# Altium schematic symbol library WE-PMCI.SchLib: 27 symbols
Pins are listed as number, name and electrical type; pins without a type are passive.

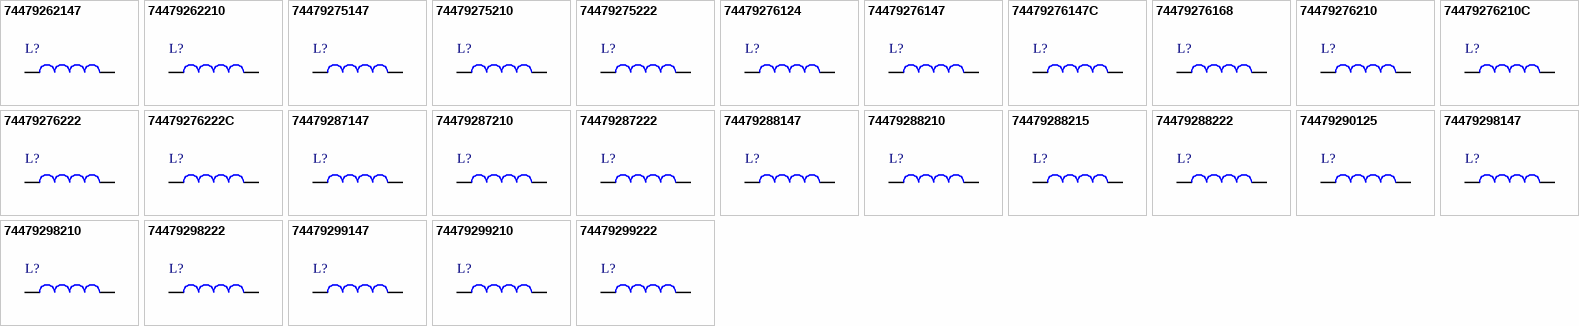
[diagram p0: symbols 74479262147 to 74479299222]

## 74479262147
designator L?, comment 0.47µH  (value not drawn)
WE-PMCI Power Molded Chip Inductor, size 160808, 0.47µH, 3.95A, 75mΩ; Manufacturer Part Number: 74479262147; Manufacturer: Wurth Elektronik; Case/Size Code: 160808; Saturation Current @ 10%: 1.5A; Saturation Current @ 30%: 3.35A; Self Resonant Frequency: 120MHz; Category: Power Inductors; Match Code: WE-PMCI; ComponentLink1Description: Website Link; ComponentLink1URL: https://www.we-online.com/redexpert/article/74479262147?ad; ComponentLink2Description: Datasheet Link; ComponentLink2URL: https://www.we-online.com/redexpert/spec/74479262147?ad; Mount: Surface Mount; Min Operating Temperature: -40°C; Max Operating Temperature: 125°C; Packaging: Tape and Reel; Length: 1.6mm; Width: 0.8mm; Height: 0.8mm; DC Resistance Max: 75mΩ; Inductance: 0.47µH; Performance Rated Current: 3.95A
footprint WE-PMCI_160808
simulation model 0603_74479262147_0.47u
pins: 1, 2

## 74479262210
designator L?, comment 1µH  (value not drawn)
WE-PMCI Power Molded Chip Inductor, size 160808, 1µH, 2.6A, 115mΩ; Manufacturer Part Number: 74479262210; Manufacturer: Wurth Elektronik; Case/Size Code: 160808; Saturation Current @ 10%: 1.2A; Self Resonant Frequency: 90MHz; Category: Power Inductors; Match Code: WE-PMCI; ComponentLink1Description: Website Link; ComponentLink1URL: https://www.we-online.com/redexpert/article/74479262210?ad; ComponentLink2Description: Datasheet Link; ComponentLink2URL: https://www.we-online.com/redexpert/spec/74479262210?ad; Mount: Surface Mount; Min Operating Temperature: -40°C; Max Operating Temperature: 125°C; Packaging: Tape and Reel; Length: 1.6mm; Width: 0.8mm; Height: 0.8mm; DC Resistance Max: 115mΩ; Inductance: 1µH; Performance Rated Current: 2.6A; Saturation Current @ 30%: 2.6A
footprint WE-PMCI_160808
simulation model 0603_74479262210_1u
pins: 1, 2

## 74479275147
designator L?, comment 0.47µH  (value not drawn)
WE-PMCI Power Molded Chip Inductor, size 201210, 0.47µH, 4.3A, 44mΩ; Manufacturer Part Number: 74479275147; Manufacturer: Wurth Elektronik; Case/Size Code: 201210; Saturation Current @ 10%: 2.55A; Saturation Current @ 30%: 5.15A; Self Resonant Frequency: 120MHz; Category: Power Inductors; Match Code: WE-PMCI; ComponentLink1Description: Website Link; ComponentLink1URL: https://www.we-online.com/redexpert/article/74479275147?ad; ComponentLink2Description: Datasheet Link; ComponentLink2URL: https://www.we-online.com/redexpert/spec/74479275147?ad; Mount: Surface Mount; Min Operating Temperature: -40°C; Max Operating Temperature: 125°C; Packaging: Tape and Reel; Length: 2mm; Width: 1.25mm; Height: 1mm; DC Resistance Max: 44mΩ; Inductance: 0.47µH; Performance Rated Current: 4.3A
footprint WE-PMCI_201210
simulation model 0805_74479275147_0.47u
pins: 1, 2

## 74479275210
designator L?, comment 1µH  (value not drawn)
WE-PMCI Power Molded Chip Inductor, size 201210, 1µH, 3.3A, 75mΩ; Manufacturer Part Number: 74479275210; Manufacturer: Wurth Elektronik; Case/Size Code: 201210; Saturation Current @ 10%: 1.55A; Saturation Current @ 30%: 3.45A; Self Resonant Frequency: 120MHz; Category: Power Inductors; Match Code: WE-PMCI; ComponentLink1Description: Website Link; ComponentLink1URL: https://www.we-online.com/redexpert/article/74479275210?ad; ComponentLink2Description: Datasheet Link; ComponentLink2URL: https://www.we-online.com/redexpert/spec/74479275210?ad; Mount: Surface Mount; Min Operating Temperature: -40°C; Max Operating Temperature: 125°C; Packaging: Tape and Reel; Length: 2mm; Width: 1.25mm; Height: 1mm; DC Resistance Max: 75mΩ; Inductance: 1µH; Performance Rated Current: 3.3A
footprint WE-PMCI_201210
simulation model 0805_74479275210_1u
pins: 1, 2

## 74479275222
designator L?, comment 2.2µH  (value not drawn)
WE-PMCI Power Molded Chip Inductor, size 201210, 2.2µH, 2A, 190mΩ; Manufacturer Part Number: 74479275222; Manufacturer: Wurth Elektronik; Case/Size Code: 201210; Saturation Current @ 10%: 1.2A; Saturation Current @ 30%: 2.4A; Self Resonant Frequency: 45MHz; Category: Power Inductors; Match Code: WE-PMCI; ComponentLink1Description: Website Link; ComponentLink1URL: https://www.we-online.com/redexpert/article/74479275222?ad; ComponentLink2Description: Datasheet Link; ComponentLink2URL: https://www.we-online.com/redexpert/spec/74479275222?ad; Mount: Surface Mount; Min Operating Temperature: -40°C; Max Operating Temperature: 125°C; Packaging: Tape and Reel; Length: 2mm; Width: 1.25mm; Height: 1mm; DC Resistance Max: 190mΩ; Inductance: 2.2µH; Performance Rated Current: 2A
footprint WE-PMCI_201210
simulation model 0805_74479275222_2.2u
pins: 1, 2

## 74479276124
designator L?, comment 0.24µH  (value not drawn)
WE-PMCI Power Molded Chip Inductor, size 201610, 0.24µH, 6.9A, 21mΩ; Manufacturer Part Number: 74479276124; Manufacturer: Wurth Elektronik; Case/Size Code: 201610; Saturation Current @ 10%: 2.8A; Saturation Current @ 30%: 6.7A; Self Resonant Frequency: 280MHz; Category: Power Inductors; Match Code: WE-PMCI; ComponentLink1Description: Website Link; ComponentLink1URL: https://www.we-online.com/redexpert/article/74479276124?ad; ComponentLink2Description: Datasheet Link; ComponentLink2URL: https://www.we-online.com/redexpert/spec/74479276124?ad; Mount: Surface Mount; Min Operating Temperature: -40°C; Max Operating Temperature: 125°C; Packaging: Tape and Reel; Length: 2mm; Width: 1.6mm; Height: 1mm; DC Resistance Max: 21mΩ; Inductance: 0.24µH; Performance Rated Current: 6.9A
footprint WE-PMCI_201610
simulation model 0806_74479276124_0.24u
pins: 1, 2

## 74479276147
designator L?, comment 0.47µH  (value not drawn)
WE-PMCI Power Molded Chip Inductor, size 201610, 0.47µH, 5.4A, 30mΩ; Manufacturer Part Number: 74479276147; Manufacturer: Wurth Elektronik; Case/Size Code: 201610; Saturation Current @ 10%: 2.95A; Saturation Current @ 30%: 6.3A; Self Resonant Frequency: 165MHz; Category: Power Inductors; Match Code: WE-PMCI; ComponentLink1Description: Website Link; ComponentLink1URL: https://www.we-online.com/redexpert/article/74479276147?ad; ComponentLink2Description: Datasheet Link; ComponentLink2URL: https://www.we-online.com/redexpert/spec/74479276147?ad; Mount: Surface Mount; Min Operating Temperature: -40°C; Max Operating Temperature: 125°C; Packaging: Tape and Reel; Length: 2mm; Width: 1.6mm; Height: 1mm; DC Resistance Max: 30mΩ; Inductance: 0.47µH; Performance Rated Current: 5.4A
footprint WE-PMCI_201610
simulation model 0806_74479276147_0.47u
pins: 1, 2

## 74479276147C
designator L?, comment 0.47µH  (value not drawn)
WE-PMCI Power Molded Chip Inductor, size 201610, 0.47µH, 5.4A, 30mΩ; Manufacturer Part Number: 74479276147C; Manufacturer: Wurth Elektronik; Case/Size Code: 201610; Saturation Current @ 10%: 2.95A; Saturation Current @ 30%: 6.3A; Self Resonant Frequency: 165MHz; Category: Power Inductors; Match Code: WE-PMCI; ComponentLink1Description: Website Link; ComponentLink1URL: https://www.we-online.com/redexpert/article/74479276147C?ad; ComponentLink2Description: Datasheet Link; ComponentLink2URL: https://www.we-online.com/redexpert/spec/74479276147C?ad; Mount: Surface Mount; Min Operating Temperature: -40°C; Max Operating Temperature: 125°C; Packaging: Tape and Reel; Length: 2mm; Width: 1.6mm; Height: 1mm; DC Resistance Max: 30mΩ; Inductance: 0.47µH; Performance Rated Current: 5.4A
footprint WE-PMCI_201610
simulation model 0806_74479276147C_0.47u
pins: 1, 2

## 74479276168
designator L?, comment 0.68µH  (value not drawn)
WE-PMCI Power Molded Chip Inductor, size 201610, 0.68µH, 3.8A, 49mΩ; Manufacturer Part Number: 74479276168; Manufacturer: Wurth Elektronik; Case/Size Code: 201610; Saturation Current @ 10%: 1.8A; Saturation Current @ 30%: 4A; Self Resonant Frequency: 130MHz; Category: Power Inductors; Match Code: WE-PMCI; ComponentLink1Description: Website Link; ComponentLink1URL: https://www.we-online.com/redexpert/article/74479276168?ad; ComponentLink2Description: Datasheet Link; ComponentLink2URL: https://www.we-online.com/redexpert/spec/74479276168?ad; Mount: Surface Mount; Min Operating Temperature: -40°C; Max Operating Temperature: 125°C; Packaging: Tape and Reel; Length: 2mm; Width: 1.6mm; Height: 1mm; DC Resistance Max: 49mΩ; Inductance: 0.68µH; Performance Rated Current: 3.8A
footprint WE-PMCI_201610
simulation model 0806_74479276168_0.68u
pins: 1, 2

## 74479276210
designator L?, comment 1µH  (value not drawn)
WE-PMCI Power Molded Chip Inductor, size 201610, 1µH, 3.15A, 60mΩ; Manufacturer Part Number: 74479276210; Manufacturer: Wurth Elektronik; Case/Size Code: 201610; Saturation Current @ 10%: 1.95A; Saturation Current @ 30%: 4.25A; Self Resonant Frequency: 95MHz; Category: Power Inductors; Match Code: WE-PMCI; ComponentLink1Description: Website Link; ComponentLink1URL: https://www.we-online.com/redexpert/article/74479276210?ad; ComponentLink2Description: Datasheet Link; ComponentLink2URL: https://www.we-online.com/redexpert/spec/74479276210?ad; Mount: Surface Mount; Min Operating Temperature: -40°C; Max Operating Temperature: 125°C; Packaging: Tape and Reel; Length: 2mm; Width: 1.6mm; Height: 1mm; DC Resistance Max: 60mΩ; Inductance: 1µH; Performance Rated Current: 3.15A
footprint WE-PMCI_201610
simulation model 0806_74479276210_1u
pins: 1, 2

## 74479276210C
designator L?, comment 1µH  (value not drawn)
WE-PMCI Power Molded Chip Inductor, size 201610, 1µH, 3.15A, 60mΩ; Manufacturer Part Number: 74479276210C; Manufacturer: Wurth Elektronik; Case/Size Code: 201610; Saturation Current @ 10%: 1.95A; Saturation Current @ 30%: 4.25A; Self Resonant Frequency: 95MHz; Category: Power Inductors; Match Code: WE-PMCI; ComponentLink1Description: Website Link; ComponentLink1URL: https://www.we-online.com/redexpert/article/74479276210C?ad; ComponentLink2Description: Datasheet Link; ComponentLink2URL: https://www.we-online.com/redexpert/spec/74479276210C?ad; Mount: Surface Mount; Min Operating Temperature: -40°C; Max Operating Temperature: 125°C; Packaging: Tape and Reel; Length: 2mm; Width: 1.6mm; Height: 1mm; DC Resistance Max: 60mΩ; Inductance: 1µH; Performance Rated Current: 3.15A
footprint WE-PMCI_201610
simulation model 0806_74479276210C_1u
pins: 1, 2

## 74479276222
designator L?, comment 2.2µH  (value not drawn)
WE-PMCI Power Molded Chip Inductor, size 201610, 2.2µH, 2.1A, 140mΩ; Manufacturer Part Number: 74479276222; Manufacturer: Wurth Elektronik; Case/Size Code: 201610; Saturation Current @ 10%: 1.25A; Saturation Current @ 30%: 2.8A; Self Resonant Frequency: 60MHz; Category: Power Inductors; Match Code: WE-PMCI; ComponentLink1Description: Website Link; ComponentLink1URL: https://www.we-online.com/redexpert/article/74479276222?ad; ComponentLink2Description: Datasheet Link; ComponentLink2URL: https://www.we-online.com/redexpert/spec/74479276222?ad; Mount: Surface Mount; Min Operating Temperature: -40°C; Max Operating Temperature: 125°C; Packaging: Tape and Reel; Length: 2mm; Width: 1.6mm; Height: 1mm; DC Resistance Max: 140mΩ; Inductance: 2.2µH; Performance Rated Current: 2.1A
footprint WE-PMCI_201610
simulation model 0806_74479276222_2.2u
pins: 1, 2

## 74479276222C
designator L?, comment 2.2µH  (value not drawn)
WE-PMCI Power Molded Chip Inductor, size 201610, 2.2µH, 2.1A, 140mΩ; Manufacturer Part Number: 74479276222C; Manufacturer: Wurth Elektronik; Case/Size Code: 201610; Saturation Current @ 10%: 1.25A; Saturation Current @ 30%: 2.8A; Self Resonant Frequency: 60MHz; Category: Power Inductors; Match Code: WE-PMCI; ComponentLink1Description: Website Link; ComponentLink1URL: https://www.we-online.com/redexpert/article/74479276222C?ad; ComponentLink2Description: Datasheet Link; ComponentLink2URL: https://www.we-online.com/redexpert/spec/74479276222C?ad; Mount: Surface Mount; Min Operating Temperature: -40°C; Max Operating Temperature: 125°C; Packaging: Tape and Reel; Length: 2mm; Width: 1.6mm; Height: 1mm; DC Resistance Max: 140mΩ; Inductance: 2.2µH; Performance Rated Current: 2.1A
footprint WE-PMCI_201610
simulation model 0806_74479276222C_2.2u
pins: 1, 2

## 74479287147
designator L?, comment 0.47µH  (value not drawn)
WE-PMCI Power Molded Chip Inductor, size 252010, 0.47µH, 7.35A, 29mΩ; Manufacturer Part Number: 74479287147; Manufacturer: Wurth Elektronik; Case/Size Code: 252010; Saturation Current @ 10%: 3.6A; Saturation Current @ 30%: 7.4A; Self Resonant Frequency: 150MHz; Category: Power Inductors; Match Code: WE-PMCI; ComponentLink1Description: Website Link; ComponentLink1URL: https://www.we-online.com/redexpert/article/74479287147?ad; ComponentLink2Description: Datasheet Link; ComponentLink2URL: https://www.we-online.com/redexpert/spec/74479287147?ad; Mount: Surface Mount; Min Operating Temperature: -40°C; Max Operating Temperature: 125°C; Packaging: Tape and Reel; Length: 2.5mm; Width: 2mm; Height: 1mm; DC Resistance Max: 29mΩ; Inductance: 0.47µH; Performance Rated Current: 7.35A
footprint WE-PMCI_252010
simulation model 1008_74479287147_0.47u
pins: 1, 2

## 74479287210
designator L?, comment 1µH  (value not drawn)
WE-PMCI Power Molded Chip Inductor, size 252010, 1µH, 4.9A, 52mΩ; Manufacturer Part Number: 74479287210; Manufacturer: Wurth Elektronik; Case/Size Code: 252010; Saturation Current @ 10%: 2.4A; Saturation Current @ 30%: 5.1A; Self Resonant Frequency: 85MHz; Category: Power Inductors; Match Code: WE-PMCI; ComponentLink1Description: Website Link; ComponentLink1URL: https://www.we-online.com/redexpert/article/74479287210?ad; ComponentLink2Description: Datasheet Link; ComponentLink2URL: https://www.we-online.com/redexpert/spec/74479287210?ad; Mount: Surface Mount; Min Operating Temperature: -40°C; Max Operating Temperature: 125°C; Packaging: Tape and Reel; Length: 2.5mm; Width: 2mm; Height: 1mm; DC Resistance Max: 52mΩ; Inductance: 1µH; Performance Rated Current: 4.9A
footprint WE-PMCI_252010
simulation model 1008_74479287210_1u
pins: 1, 2

## 74479287222
designator L?, comment 2.2µH  (value not drawn)
WE-PMCI Power Molded Chip Inductor, size 252010, 2.2µH, 3.15A, 110mΩ; Manufacturer Part Number: 74479287222; Manufacturer: Wurth Elektronik; Case/Size Code: 252010; Saturation Current @ 10%: 1.5A; Saturation Current @ 30%: 3.1A; Self Resonant Frequency: 40MHz; Category: Power Inductors; Match Code: WE-PMCI; ComponentLink1Description: Website Link; ComponentLink1URL: https://www.we-online.com/redexpert/article/74479287222?ad; ComponentLink2Description: Datasheet Link; ComponentLink2URL: https://www.we-online.com/redexpert/spec/74479287222?ad; Mount: Surface Mount; Min Operating Temperature: -40°C; Max Operating Temperature: 125°C; Packaging: Tape and Reel; Length: 2.5mm; Width: 2mm; Height: 1mm; DC Resistance Max: 110mΩ; Inductance: 2.2µH; Performance Rated Current: 3.15A
footprint WE-PMCI_252010
simulation model 1008_74479287222_2.2u
pins: 1, 2

## 74479288147
designator L?, comment 0.47µH  (value not drawn)
WE-PMCI Power Molded Chip Inductor, size 252012, 0.47µH, 6.8A, 22mΩ; Manufacturer Part Number: 74479288147; Manufacturer: Wurth Elektronik; Case/Size Code: 252012; Saturation Current @ 10%: 3.75A; Saturation Current @ 30%: 7.9A; Self Resonant Frequency: 140MHz; Category: Power Inductors; Match Code: WE-PMCI; ComponentLink1Description: Website Link; ComponentLink1URL: https://www.we-online.com/redexpert/article/74479288147?ad; ComponentLink2Description: Datasheet Link; ComponentLink2URL: https://www.we-online.com/redexpert/spec/74479288147?ad; Mount: Surface Mount; Min Operating Temperature: -40°C; Max Operating Temperature: 125°C; Packaging: Tape and Reel; Length: 2.5mm; Width: 2mm; Height: 1.2mm; DC Resistance Max: 22mΩ; Inductance: 0.47µH; Performance Rated Current: 6.8A
footprint WE-PMCI_252012
simulation model 1008_74479288147_0.47u
pins: 1, 2

## 74479288210
designator L?, comment 1µH  (value not drawn)
WE-PMCI Power Molded Chip Inductor, size 252012, 1µH, 4.6A, 44mΩ; Manufacturer Part Number: 74479288210; Manufacturer: Wurth Elektronik; Case/Size Code: 252012; Saturation Current @ 10%: 1.75A; Saturation Current @ 30%: 4.1A; Self Resonant Frequency: 80MHz; Category: Power Inductors; Match Code: WE-PMCI; ComponentLink1Description: Website Link; ComponentLink1URL: https://www.we-online.com/redexpert/article/74479288210?ad; ComponentLink2Description: Datasheet Link; ComponentLink2URL: https://www.we-online.com/redexpert/spec/74479288210?ad; Mount: Surface Mount; Min Operating Temperature: -40°C; Max Operating Temperature: 125°C; Packaging: Tape and Reel; Length: 2.5mm; Width: 2mm; Height: 1.2mm; DC Resistance Max: 44mΩ; Inductance: 1µH; Performance Rated Current: 4.6A
footprint WE-PMCI_252012
simulation model 1008_74479288210_1u
pins: 1, 2

## 74479288215
designator L?, comment 1.5µH  (value not drawn)
WE-PMCI Power Molded Chip Inductor, size 252012, 1.5µH, 3.2A, 77mΩ; Manufacturer Part Number: 74479288215; Manufacturer: Wurth Elektronik; Case/Size Code: 252012; Saturation Current @ 10%: 1.35A; Saturation Current @ 30%: 3.05A; Self Resonant Frequency: 70MHz; Category: Power Inductors; Match Code: WE-PMCI; ComponentLink1Description: Website Link; ComponentLink1URL: https://www.we-online.com/redexpert/article/74479288215?ad; ComponentLink2Description: Datasheet Link; ComponentLink2URL: https://www.we-online.com/redexpert/spec/74479288215?ad; Mount: Surface Mount; Min Operating Temperature: -40°C; Max Operating Temperature: 125°C; Packaging: Tape and Reel; Length: 2.5mm; Width: 2mm; Height: 1.2mm; DC Resistance Max: 77mΩ; Inductance: 1.5µH; Performance Rated Current: 3.2A
footprint WE-PMCI_252012
simulation model 1008_74479288215_1.5u
pins: 1, 2

## 74479288222
designator L?, comment 2.2µH  (value not drawn)
WE-PMCI Power Molded Chip Inductor, size 252012, 2.2µH, 3A, 89mΩ; Manufacturer Part Number: 74479288222; Manufacturer: Wurth Elektronik; Case/Size Code: 252012; Saturation Current @ 10%: 1.4A; Saturation Current @ 30%: 3.25A; Self Resonant Frequency: 50MHz; Category: Power Inductors; Match Code: WE-PMCI; ComponentLink1Description: Website Link; ComponentLink1URL: https://www.we-online.com/redexpert/article/74479288222?ad; ComponentLink2Description: Datasheet Link; ComponentLink2URL: https://www.we-online.com/redexpert/spec/74479288222?ad; Mount: Surface Mount; Min Operating Temperature: -40°C; Max Operating Temperature: 125°C; Packaging: Tape and Reel; Length: 2.5mm; Width: 2mm; Height: 1.2mm; DC Resistance Max: 89mΩ; Inductance: 2.2µH; Performance Rated Current: 3A
footprint WE-PMCI_252012
simulation model 1008_74479288222_2.2u
pins: 1, 2

## 74479290125
designator L?, comment 0.25µH  (value not drawn)
WE-PMCI Power Molded Chip Inductor, size 322515, 0.25µH, 9.05A, 31mΩ; Manufacturer Part Number: 74479290125; Manufacturer: Wurth Elektronik; Case/Size Code: 322515; Saturation Current @ 10%: 8.5A; Saturation Current @ 30%: 15.65A; Self Resonant Frequency: 150MHz; Category: Power Inductors; Match Code: WE-PMCI; ComponentLink1Description: Website Link; ComponentLink1URL: https://www.we-online.com/redexpert/article/74479290125?ad; ComponentLink2Description: Datasheet Link; ComponentLink2URL: https://www.we-online.com/redexpert/spec/74479290125?ad; Mount: Surface Mount; Min Operating Temperature: -40°C; Max Operating Temperature: 125°C; Packaging: Tape and Reel; Length: 3.2mm; Width: 2.5mm; Height: 1.5mm; DC Resistance Max: 31mΩ; Inductance: 0.25µH; Performance Rated Current: 9.05A
footprint WE-PMCI_322515
simulation model 1210_74479290125_0.25u
pins: 1, 2

## 74479298147
designator L?, comment 0.47µH  (value not drawn)
WE-PMCI Power Molded Chip Inductor, size 322510, 0.47µH, 7.3A, 22mΩ; Manufacturer Part Number: 74479298147; Manufacturer: Wurth Elektronik; Case/Size Code: 322510; Saturation Current @ 10%: 2.8A; Saturation Current @ 30%: 5.9A; Self Resonant Frequency: 90MHz; Category: Power Inductors; Match Code: WE-PMCI; ComponentLink1Description: Website Link; ComponentLink1URL: https://www.we-online.com/redexpert/article/74479298147?ad; ComponentLink2Description: Datasheet Link; ComponentLink2URL: https://www.we-online.com/redexpert/spec/74479298147?ad; Mount: Surface Mount; Min Operating Temperature: -40°C; Max Operating Temperature: 125°C; Packaging: Tape and Reel; Length: 3.2mm; Width: 2.5mm; Height: 1mm; DC Resistance Max: 22mΩ; Inductance: 0.47µH; Performance Rated Current: 7.3A
footprint WE-PMCI_322510
simulation model 1210_74479298147_0.47u
pins: 1, 2

## 74479298210
designator L?, comment 1µH  (value not drawn)
WE-PMCI Power Molded Chip Inductor, size 322510, 1µH, 4.95A, 49mΩ; Manufacturer Part Number: 74479298210; Manufacturer: Wurth Elektronik; Case/Size Code: 322510; Saturation Current @ 10%: 2.7A; Saturation Current @ 30%: 5.5A; Self Resonant Frequency: 60MHz; Category: Power Inductors; Match Code: WE-PMCI; ComponentLink1Description: Website Link; ComponentLink1URL: https://www.we-online.com/redexpert/article/74479298210?ad; ComponentLink2Description: Datasheet Link; ComponentLink2URL: https://www.we-online.com/redexpert/spec/74479298210?ad; Mount: Surface Mount; Min Operating Temperature: -40°C; Max Operating Temperature: 125°C; Packaging: Tape and Reel; Length: 3.2mm; Width: 2.5mm; Height: 1mm; DC Resistance Max: 49mΩ; Inductance: 1µH; Performance Rated Current: 4.95A
footprint WE-PMCI_322510
simulation model 1210_74479298210_1u
pins: 1, 2

## 74479298222
designator L?, comment 2.2µH  (value not drawn)
WE-PMCI Power Molded Chip Inductor, size 322510, 2.2µH, 3.35A, 93mΩ; Manufacturer Part Number: 74479298222; Manufacturer: Wurth Elektronik; Case/Size Code: 322510; Saturation Current @ 10%: 1.65A; Saturation Current @ 30%: 3.95A; Self Resonant Frequency: 35MHz; Category: Power Inductors; Match Code: WE-PMCI; ComponentLink1Description: Website Link; ComponentLink1URL: https://www.we-online.com/redexpert/article/74479298222?ad; ComponentLink2Description: Datasheet Link; ComponentLink2URL: https://www.we-online.com/redexpert/spec/74479298222?ad; Mount: Surface Mount; Min Operating Temperature: -40°C; Max Operating Temperature: 125°C; Packaging: Tape and Reel; Length: 3.2mm; Width: 2.5mm; Height: 1mm; DC Resistance Max: 93mΩ; Inductance: 2.2µH; Performance Rated Current: 3.35A
footprint WE-PMCI_322510
simulation model 1210_74479298222_2.2u
pins: 1, 2

## 74479299147
designator L?, comment 0.47µH  (value not drawn)
WE-PMCI Power Molded Chip Inductor, size 322512, 0.47µH, 7.1A, 22mΩ; Manufacturer Part Number: 74479299147; Manufacturer: Wurth Elektronik; Case/Size Code: 322512; Saturation Current @ 10%: 5.15A; Saturation Current @ 30%: 9.95A; Self Resonant Frequency: 90MHz; Category: Power Inductors; Match Code: WE-PMCI; ComponentLink1Description: Website Link; ComponentLink1URL: https://www.we-online.com/redexpert/article/74479299147?ad; ComponentLink2Description: Datasheet Link; ComponentLink2URL: https://www.we-online.com/redexpert/spec/74479299147?ad; Mount: Surface Mount; Min Operating Temperature: -40°C; Max Operating Temperature: 125°C; Packaging: Tape and Reel; Length: 3.2mm; Width: 2.5mm; Height: 1.2mm; DC Resistance Max: 22mΩ; Inductance: 0.47µH; Performance Rated Current: 7.1A
footprint WE-PMCI_322512
simulation model 1210_74479299147_0.47u
pins: 1, 2

## 74479299210
designator L?, comment 1µH  (value not drawn)
WE-PMCI Power Molded Chip Inductor, size 322512, 1µH, 6.2A, 35mΩ; Manufacturer Part Number: 74479299210; Manufacturer: Wurth Elektronik; Case/Size Code: 322512; Saturation Current @ 10%: 3.25A; Saturation Current @ 30%: 6.95A; Self Resonant Frequency: 60MHz; Category: Power Inductors; Match Code: WE-PMCI; ComponentLink1Description: Website Link; ComponentLink1URL: https://www.we-online.com/redexpert/article/74479299210?ad; ComponentLink2Description: Datasheet Link; ComponentLink2URL: https://www.we-online.com/redexpert/spec/74479299210?ad; Mount: Surface Mount; Min Operating Temperature: -40°C; Max Operating Temperature: 125°C; Packaging: Tape and Reel; Length: 3.2mm; Width: 2.5mm; Height: 1.2mm; DC Resistance Max: 35mΩ; Inductance: 1µH; Performance Rated Current: 6.2A
footprint WE-PMCI_322512
simulation model 1210_74479299210_1u
pins: 1, 2

## 74479299222
designator L?, comment 2.2µH  (value not drawn)
WE-PMCI Power Molded Chip Inductor, size 322512, 2.2µH, 3.65A, 75mΩ; Manufacturer Part Number: 74479299222; Manufacturer: Wurth Elektronik; Case/Size Code: 322512; Saturation Current @ 10%: 2.25A; Saturation Current @ 30%: 4.8A; Self Resonant Frequency: 35MHz; Category: Power Inductors; Match Code: WE-PMCI; ComponentLink1Description: Website Link; ComponentLink1URL: https://www.we-online.com/redexpert/article/74479299222?ad; ComponentLink2Description: Datasheet Link; ComponentLink2URL: https://www.we-online.com/redexpert/spec/74479299222?ad; Mount: Surface Mount; Min Operating Temperature: -40°C; Max Operating Temperature: 125°C; Packaging: Tape and Reel; Length: 3.2mm; Width: 2.5mm; Height: 1.2mm; DC Resistance Max: 75mΩ; Inductance: 2.2µH; Performance Rated Current: 3.65A
footprint WE-PMCI_322512
simulation model 1210_74479299222_2.2u
pins: 1, 2